# Altium footprint library SOIC16N_5.8.PcbLib: 1 footprints
Each footprint in its own frame and in the unit in brackets; x right, y up, seen from the top. Pads: shape width x height; smd on the part's side, far side on the other; paste and mask are expansions set on the pad; w line width, h text height; cw(c..) or ccw(c..) is an arc to the next point about the centre after c.
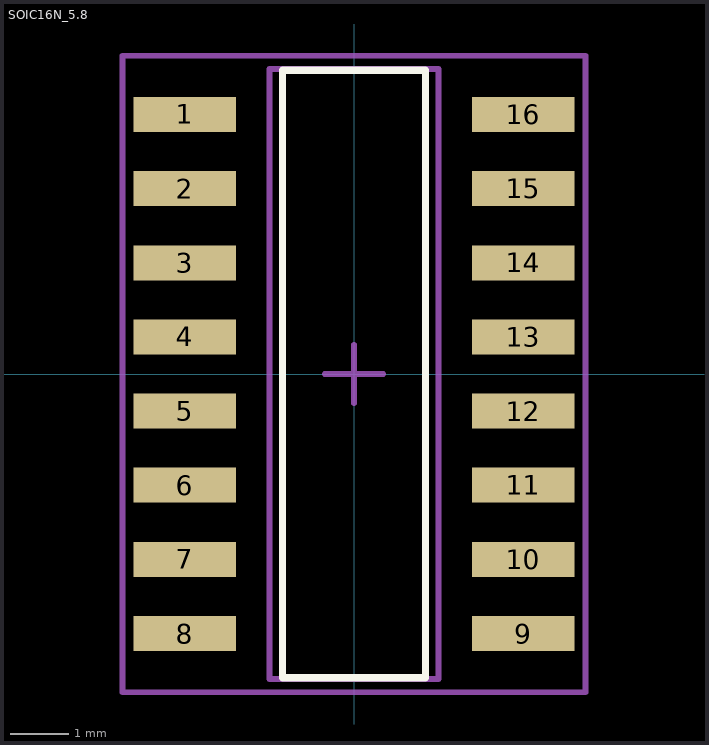
[diagram p0: the footprint, top view; thin cyan lines are the x and y axes]

## SOIC16N_5.8 [mm]
pads (16):
  rect 1.75x0.6 smd: 1(-2.9,4.445) 2(-2.9,3.175) 3(-2.9,1.905) 4(-2.9,0.635) 5(-2.9,-0.635) 6(-2.9,-1.905) 7(-2.9,-3.175) 8(-2.9,-4.445) 9(2.9,-4.445) 10(2.9,-3.175) 11(2.9,-1.905) 12(2.9,-0.635) 13(2.9,0.635) 14(2.9,1.905) 15(2.9,3.175) 16(2.9,4.445)
Top Overlay:
  lines w0.127: -1.225,-5.2 1.225,-5.2 1.225,5.2 -1.225,5.2 -1.225,-5.2
  text "." at -4.343,4.437 h0.38
Mechanical 13:
  lines w0.1: -1.45,-5.225 -1.45,5.225 1.45,5.225 1.45,-5.225 -1.45,-5.225
Mechanical 15:
  lines w0.1: -0.5,0 0.5,0 ; 0,-0.5 0,0.5 ; -3.962,-5.45 3.962,-5.45 3.962,5.45 -3.962,5.45 -3.962,-5.45
3D body "D16_TEX.step": height 1.76, standoff 0, extent -3.12,-5.002 3.078,5.006